# EAGLE library part RPI_HEADER (library mylib)
RASPBERRY PI I/O HEADER As defined for the Revistion 2 Pi.
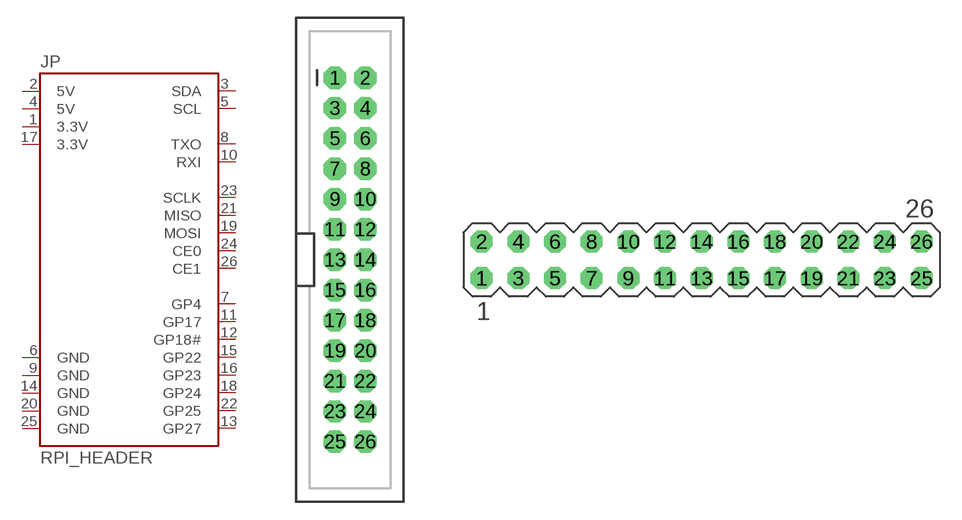
[diagram p7: symbol with the pads of 2X13-SHROUDED; footprints 2X13-SHROUDED, 13X2_HEADER]

Designator prefix JP

## RPI_HEADERPTH (DIST: sparkfun; DIST_ID: PRT-11490)  [2X13-SHROUDED]
1  3.3V  pwr
2  5V  pwr
3  SDA
4  5V  pwr
5  SCL
6  GND  pwr
7  GP4
8  TXO  out
9  GND  pwr
10  RXI  in
11  GP17
12  GP18#
13  GP27
14  GND  pwr
15  GP22
16  GP23
17  3.3V  pwr
18  GP24
19  MOSI  out
20  GND  pwr
21  MISO  in
22  GP25
23  SCLK  out
24  CE0  out
25  GND  pwr
26  CE1  out

## RPI_HEADER  [13X2_HEADER]
Pads as for 2X13-SHROUDED

## Footprint 2X13-SHROUDED (pad centres in mm)
drill 1.016 pad 1.88 octagon: 1 -1.27,15.24; 2 1.27,15.24; 3 -1.27,12.7; 4 1.27,12.7; 5 -1.27,10.16; 6 1.27,10.16; 7 -1.27,7.62; 8 1.27,7.62; 9 -1.27,5.08; 10 1.27,5.08; 11 -1.27,2.54; 12 1.27,2.54; 13 -1.27,0; 14 1.27,0; 15 -1.27,-2.54; 16 1.27,-2.54; 17 -1.27,-5.08; 18 1.27,-5.08; 19 -1.27,-7.62; 20 1.27,-7.62; 21 -1.27,-10.16; 22 1.27,-10.16; 23 -1.27,-12.7; 24 1.27,-12.7; 25 -1.27,-15.24; 26 1.27,-15.24

## Footprint 13X2_HEADER (pad centres in mm)
PIN HEADER
drill 1.016 octagon: 1 -15.24,-1.27; 2 -15.24,1.27; 3 -12.7,-1.27; 4 -12.7,1.27; 5 -10.16,-1.27; 6 -10.16,1.27; 7 -7.62,-1.27; 8 -7.62,1.27; 9 -5.08,-1.27; 10 -5.08,1.27; 11 -2.54,-1.27; 12 -2.54,1.27; 13 0,-1.27; 14 0,1.27; 15 2.54,-1.27; 16 2.54,1.27; 17 5.08,-1.27; 18 5.08,1.27; 19 7.62,-1.27; 20 7.62,1.27; 21 10.16,-1.27; 22 10.16,1.27; 23 12.7,-1.27; 24 12.7,1.27; 25 15.24,-1.27; 26 15.24,1.27